# Altium footprint library Supernova DF13.PcbLib: 47 footprints (part 2 of 3)
Each footprint in its own frame and in the unit in brackets; x right, y up, seen from the top. Pads: shape width x height; smd on the part's side, far side on the other; paste and mask are expansions set on the pad; w line width, h text height; cw(c..) or ccw(c..) is an arc to the next point about the centre after c.
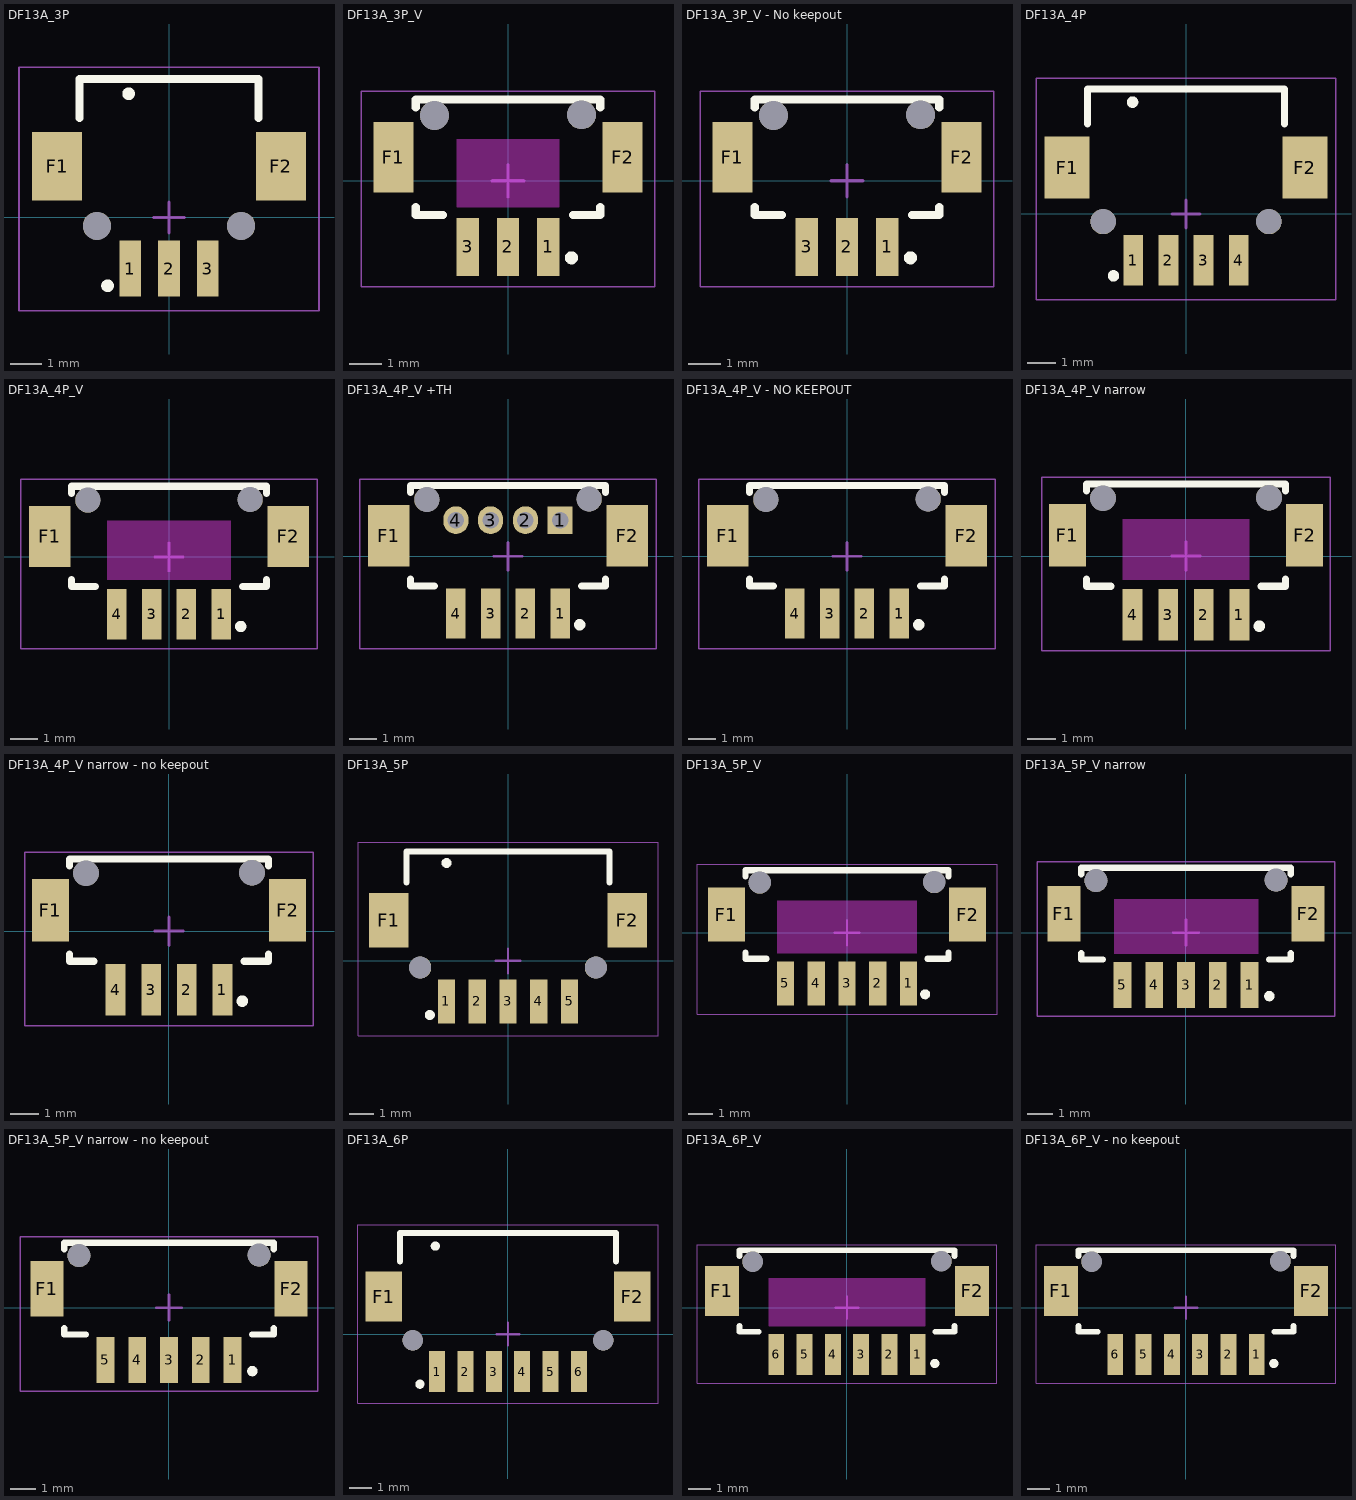
[diagram p1: the footprints below, top view; thin cyan lines are the x and y axes]

## DF13A_3P [mm]
height 4
pads (7):
  rect 0.7x1.8 smd: 1(-1.25,-1.65) 2(0,-1.65) 3(1.25,-1.65)
  rect 1.6x2.2 smd: F1(-3.6,1.65) F2(3.6,1.65)
  round 0.9 hole 0.9 unplated paste+0 mask+0: ""(-2.32,-0.27) ""(2.32,-0.27)
Top Overlay:
  circle w0.203: c-1.3,3.978 r0.102
  circle w0.203: c-1.978,-2.2 r0.102
  lines w0.254: -2.875,3.2 -2.875,4.45 2.875,4.45 2.875,3.2
Top Courtyard:
  lines w0.05: -4.826,-3 -4.826,4.826 4.826,4.826 4.826,-3 -4.826,-3
  lines w0.1: -0.5,0 0.5,0 ; 0,-0.5 0,0.5
3D body "DF13-3P-1.25H.stp": height 3.58, standoff -0.82, extent -4.2,-2.15 4.2,4.35

## DF13A_3P_V [mm]
height 4
pads (7):
  rect 0.7x1.8 smd: 1(1.25,-2.06) 2(0,-2.06) 3(-1.25,-2.06)
  rect 1.245x2.2 smd mask+0: F1(-3.575,0.74) F2(3.575,0.74)
  round 0.9 hole 0.9 unplated paste+0 mask+0: ""(-2.295,2.04) ""(2.295,2.06)
Top Layer keep-out:
  rectangle: -1.6,-0.835 1.6,1.31
Top Overlay:
  circle w0.203: c1.978,-2.4 r0.102
  lines w0.254: -2.875,-0.81 -2.875,-1.06 -2.025,-1.06 ; -2.875,2.29 -2.875,2.54 2.875,2.54 2.875,2.29 ; 2.025,-1.06 2.875,-1.06 2.875,-0.81
Top Courtyard:
  lines w0.05: -4.572,-3.302 4.572,-3.302 4.572,2.794 -4.572,2.794 -4.572,-3.302
  lines w0.1: -0.5,0 0.5,0 ; 0,-0.5 0,0.5
3D body "DF13-3P-1.25V.STEP": height 4.82, standoff -0.78, extent -4.2,-2.41 4.2,2.49

## DF13A_3P_V - No keepout [mm]
height 4
pads (7):
  rect 0.7x1.8 smd: 1(1.25,-2.06) 2(0,-2.06) 3(-1.25,-2.06)
  rect 1.245x2.2 smd mask+0: F1(-3.575,0.74) F2(3.575,0.74)
  round 0.9 hole 0.9 unplated paste+0 mask+0: ""(-2.295,2.04) ""(2.295,2.06)
Top Overlay:
  circle w0.203: c1.978,-2.4 r0.102
  lines w0.254: -2.875,-0.81 -2.875,-1.06 -2.025,-1.06 ; -2.875,2.29 -2.875,2.54 2.875,2.54 2.875,2.29 ; 2.025,-1.06 2.875,-1.06 2.875,-0.81
Top Courtyard:
  lines w0.05: -4.572,-3.302 4.572,-3.302 4.572,2.794 -4.572,2.794 -4.572,-3.302
  lines w0.1: -0.5,0 0.5,0 ; 0,-0.5 0,0.5
3D body "DF13-3P-1.25V.STEP": height 4.82, standoff -0.78, extent -4.2,-2.41 4.2,2.49

## DF13A_4P [mm]
height 4
pads (8):
  rect 0.7x1.8 smd: 1(-1.875,-1.65) 2(-0.625,-1.65) 3(0.625,-1.65) 4(1.875,-1.65)
  rect 1.6x2.2 smd: F1(-4.225,1.65) F2(4.225,1.65)
  round 0.9 hole 0.9 unplated paste+0 mask+0: ""(-2.945,-0.27) ""(2.945,-0.27)
Top Overlay:
  circle w0.203: c-2.578,-2.2 r0.102
  circle w0.203: c-1.9,3.978 r0.102
  lines w0.254: -3.5,3.2 -3.5,4.45 3.5,4.45 3.5,3.2
Top Courtyard:
  lines w0.05: -5.334,-3.048 -5.334,4.826 5.334,4.826 5.334,-3.048 -5.334,-3.048
  lines w0.1: -0.5,0 0.5,0 ; 0,-0.5 0,0.5
3D body "DF13-4P-1.25H2.stp": height 3.58, standoff -0.82, extent -4.825,-2.15 4.825,4.35

## DF13A_4P_V [mm]
height 4
pads (8):
  rect 0.7x1.8 smd: 1(1.875,-2.06) 2(0.625,-2.06) 3(-0.625,-2.06) 4(-1.875,-2.06)
  rect 1.499x2.2 smd mask+0: F1(-4.293,0.74) F2(4.293,0.74)
  round 0.9 hole 0.9 unplated paste+0 mask+0: ""(-2.92,2.04) ""(2.92,2.06)
Top Layer keep-out:
  rectangle: -2.225,-0.835 2.225,1.31
Top Overlay:
  circle w0.203: c2.578,-2.5 r0.102
  lines w0.254: -3.5,-0.81 -3.5,-1.06 -2.65,-1.06 ; -3.5,2.29 -3.5,2.54 3.5,2.54 3.5,2.29 ; 2.65,-1.06 3.5,-1.06 3.5,-0.81
Top Courtyard:
  lines w0.05: -5.334,-3.302 5.334,-3.302 5.334,2.794 -5.334,2.794 -5.334,-3.302
  lines w0.1: -0.5,0 0.5,0 ; 0,-0.5 0,0.5
3D body "DF13-4P-1.25V2.STEP": height 4.82, standoff -0.78, extent -4.825,-2.46 4.825,2.44

## DF13A_4P_V +TH [mm]
height 4
pads (12):
  rect 0.9x1 hole 0.6: 1(1.875,1.3)
  rect 0.7x1.8 smd: 1(1.875,-2.06) 2(0.625,-2.06) 3(-0.625,-2.06) 4(-1.875,-2.06)
  oval 0.9x1 hole 0.6: 2(0.625,1.3) 3(-0.625,1.3) 4(-1.875,1.3)
  rect 1.499x2.2 smd mask+0: F1(-4.293,0.74) F2(4.293,0.74)
  round 0.9 hole 0.9 unplated paste+0 mask+0: ""(-2.92,2.04) ""(2.92,2.06)
Top Overlay:
  circle w0.203: c2.578,-2.46 r0.102
  lines w0.254: -3.5,-0.81 -3.5,-1.06 -2.65,-1.06 ; -3.5,2.29 -3.5,2.54 3.5,2.54 3.5,2.29 ; 2.65,-1.06 3.5,-1.06 3.5,-0.81
Top Courtyard:
  lines w0.05: -5.334,-3.324 -5.334,2.772 5.334,2.772 5.334,-3.324 -5.334,-3.324
  lines w0.1: -0.5,0 0.5,0 ; 0,-0.5 0,0.5
3D body "DF13-4P-1.25V2.STEP": height 4.82, standoff -0.78, extent -4.825,-2.46 4.825,2.44

## DF13A_4P_V - NO KEEPOUT [mm]
height 4
pads (8):
  rect 0.7x1.8 smd: 1(1.875,-2.06) 2(0.625,-2.06) 3(-0.625,-2.06) 4(-1.875,-2.06)
  rect 1.499x2.2 smd mask+0: F1(-4.293,0.74) F2(4.293,0.74)
  round 0.9 hole 0.9 unplated paste+0 mask+0: ""(-2.92,2.04) ""(2.92,2.06)
Top Overlay:
  circle w0.203: c2.578,-2.46 r0.102
  lines w0.254: -3.5,-0.81 -3.5,-1.06 -2.65,-1.06 ; -3.5,2.29 -3.5,2.54 3.5,2.54 3.5,2.29 ; 2.65,-1.06 3.5,-1.06 3.5,-0.81
Top Courtyard:
  lines w0.05: -5.334,-3.324 -5.334,2.772 5.334,2.772 5.334,-3.324 -5.334,-3.324
  lines w0.1: -0.5,0 0.5,0 ; 0,-0.5 0,0.5
3D body "DF13-4P-1.25V2.STEP": height 4.82, standoff -0.78, extent -4.825,-2.46 4.825,2.44

## DF13A_4P_V narrow [mm]
height 4
pads (8):
  rect 0.7x1.8 smd: 1(1.875,-2.06) 2(0.625,-2.06) 3(-0.625,-2.06) 4(-1.875,-2.06)
  rect 1.3x2.2 smd mask+0: F1(-4.175,0.74) F2(4.175,0.74)
  round 0.9 hole 0.9 unplated paste+0 mask+0: ""(-2.92,2.04) ""(2.92,2.06)
Top Layer keep-out:
  rectangle: -2.225,-0.835 2.225,1.31
Top Overlay:
  circle w0.203: c2.578,-2.46 r0.102
  lines w0.254: -3.5,-0.81 -3.5,-1.06 -2.65,-1.06 ; -3.5,2.29 -3.5,2.54 3.5,2.54 3.5,2.29 ; 2.65,-1.06 3.5,-1.06 3.5,-0.81
Top Courtyard:
  lines w0.05: -5.08,-3.324 -5.08,2.772 5.08,2.772 5.08,-3.324 -5.08,-3.324
  lines w0.1: -0.5,0 0.5,0 ; 0,-0.5 0,0.5
3D body "DF13-4P-1.25V2.STEP": height 4.82, standoff -0.78, extent -4.825,-2.46 4.825,2.44

## DF13A_4P_V narrow - no keepout [mm]
height 4
pads (8):
  rect 0.7x1.8 smd: 1(1.875,-2.06) 2(0.625,-2.06) 3(-0.625,-2.06) 4(-1.875,-2.06)
  rect 1.3x2.2 smd mask+0: F1(-4.175,0.74) F2(4.175,0.74)
  round 0.9 hole 0.9 unplated paste+0 mask+0: ""(-2.92,2.04) ""(2.92,2.06)
Top Overlay:
  circle w0.203: c2.578,-2.46 r0.102
  lines w0.254: -3.5,-0.81 -3.5,-1.06 -2.65,-1.06 ; -3.5,2.29 -3.5,2.54 3.5,2.54 3.5,2.29 ; 2.65,-1.06 3.5,-1.06 3.5,-0.81
Top Courtyard:
  lines w0.05: -5.08,-3.324 5.08,-3.324 5.08,2.772 -5.08,2.772 -5.08,-3.324
  lines w0.1: -0.5,0 0.5,0 ; 0,-0.5 0,0.5
3D body "DF13-4P-1.25V2.STEP": height 4.82, standoff -0.78, extent -4.825,-2.46 4.825,2.44

## DF13A_5P [mm]
height 4
pads (9):
  rect 0.7x1.8 smd: 1(-2.5,-1.65) 2(-1.25,-1.65) 3(0,-1.65) 4(1.25,-1.65) 5(2.5,-1.65)
  rect 1.6x2.2 smd: F1(-4.85,1.65) F2(4.85,1.65)
  round 0.9 hole 0.9 unplated paste+0 mask+0: ""(-3.57,-0.27) ""(3.57,-0.27)
Top Overlay:
  circle w0.203: c-3.178,-2.2 r0.102
  circle w0.203: c-2.5,3.978 r0.102
  lines w0.254: -4.125,3.2 -4.125,4.45 4.125,4.45 4.125,3.2
Top Courtyard:
  lines w0.05: -6.096,-3.048 6.096,-3.048 6.096,4.826 -6.096,4.826 -6.096,-3.048
  lines w0.1: -0.5,0 0.5,0 ; 0,-0.5 0,0.5
3D body "DF13-5P-1.25H.stp": height 3.63, standoff -0.77, extent -5.475,-2.2 5.425,4.3

## DF13A_5P_V [mm]
height 4
pads (9):
  rect 0.7x1.8 smd: 1(2.5,-2.06) 2(1.25,-2.06) 3(0,-2.06) 4(-1.25,-2.06) 5(-2.5,-2.06)
  rect 1.5x2.2 smd mask+0: F1(-4.9,0.74) F2(4.9,0.74)
  round 0.9 hole 0.9 unplated paste+0 mask+0: ""(-3.545,2.04) ""(3.545,2.06)
Top Layer keep-out:
  rectangle: -2.835,-0.835 2.85,1.31
Top Overlay:
  circle w0.203: c3.178,-2.5 r0.102
  lines w0.254: -4.125,-0.81 -4.125,-1.06 -3.275,-1.06 ; -4.125,2.29 -4.125,2.54 4.125,2.54 4.125,2.29 ; 3.275,-1.06 4.125,-1.06 4.125,-0.81
Top Courtyard:
  lines w0.05: -6.096,-3.302 -6.096,2.794 6.096,2.794 6.096,-3.302 -6.096,-3.302
  lines w0.1: -0.5,0 0.5,0 ; 0,-0.5 0,0.5
3D body "DF13-5P-1.25V.stp": height 4.79, standoff -0.81, extent -5.465,-2.46 5.435,2.44

## DF13A_5P_V narrow [mm]
height 4
pads (9):
  rect 0.7x1.8 smd: 1(2.5,-2.06) 2(1.25,-2.06) 3(0,-2.06) 4(-1.25,-2.06) 5(-2.5,-2.06)
  rect 1.3x2.2 smd mask+0: F1(-4.8,0.74) F2(4.8,0.74)
  round 0.9 hole 0.9 unplated paste+0 mask+0: ""(-3.545,2.04) ""(3.545,2.06)
Top Layer keep-out:
  rectangle: -2.835,-0.835 2.85,1.31
Top Overlay:
  circle w0.203: c3.278,-2.5 r0.102
  lines w0.254: -4.125,-0.81 -4.125,-1.06 -3.275,-1.06 ; -4.125,2.29 -4.125,2.54 4.125,2.54 4.125,2.29 ; 3.275,-1.06 4.125,-1.06 4.125,-0.81
Top Courtyard:
  lines w0.05: -5.842,-3.302 -5.842,2.794 5.842,2.794 5.842,-3.302 -5.842,-3.302
  lines w0.1: -0.5,0 0.5,0 ; 0,-0.5 0,0.5
3D body "DF13-5P-1.25V.stp": height 4.79, standoff -0.81, extent -5.465,-2.46 5.435,2.44

## DF13A_5P_V narrow - no keepout [mm]
height 4
pads (9):
  rect 0.7x1.8 smd: 1(2.5,-2.06) 2(1.25,-2.06) 3(0,-2.06) 4(-1.25,-2.06) 5(-2.5,-2.06)
  rect 1.3x2.2 smd mask+0: F1(-4.8,0.74) F2(4.8,0.74)
  round 0.9 hole 0.9 unplated paste+0 mask+0: ""(-3.545,2.04) ""(3.545,2.06)
Top Overlay:
  circle w0.203: c3.278,-2.5 r0.102
  lines w0.254: -4.125,-0.81 -4.125,-1.06 -3.275,-1.06 ; -4.125,2.29 -4.125,2.54 4.125,2.54 4.125,2.29 ; 3.275,-1.06 4.125,-1.06 4.125,-0.81
Top Courtyard:
  lines w0.05: -5.842,-3.302 -5.842,2.794 5.842,2.794 5.842,-3.302 -5.842,-3.302
  lines w0.1: -0.5,0 0.5,0 ; 0,-0.5 0,0.5
3D body "DF13-5P-1.25V.stp": height 4.79, standoff -0.81, extent -5.465,-2.46 5.435,2.44

## DF13A_6P [mm]
height 4
pads (10):
  rect 0.7x1.8 smd: 1(-3.125,-1.65) 2(-1.875,-1.65) 3(-0.625,-1.65) 4(0.625,-1.65) 5(1.875,-1.65) 6(3.125,-1.65)
  rect 1.6x2.2 smd: F1(-5.475,1.65) F2(5.475,1.65)
  round 0.9 hole 0.9 unplated paste+0 mask+0: ""(-4.195,-0.27) ""(4.195,-0.27)
Top Overlay:
  circle w0.203: c-3.878,-2.2 r0.102
  circle w0.203: c-3.2,3.878 r0.102
  lines w0.254: -4.75,3.2 -4.75,4.45 4.75,4.45 4.75,3.2
Top Courtyard:
  lines w0.05: -6.604,-3.048 6.604,-3.048 6.604,4.826 -6.604,4.826 -6.604,-3.048
  lines w0.1: -0.5,0 0.5,0 ; 0,-0.5 0,0.5
3D body "DF13-6P-1.25H.stp": height 3.63, standoff -0.77, extent -6.1,-2.175 6.05,4.325

## DF13A_6P_V [mm]
height 4
pads (10):
  rect 0.7x1.8 smd: 1(3.125,-2.06) 2(1.875,-2.06) 3(0.625,-2.06) 4(-0.625,-2.06) 5(-1.875,-2.06) 6(-3.125,-2.06)
  rect 1.5x2.2 smd mask+0: F1(-5.525,0.74) F2(5.525,0.74)
  round 0.9 hole 0.9 unplated paste+0 mask+0: ""(-4.17,2.04) ""(4.17,2.06)
Top Layer keep-out:
  rectangle: -3.475,-0.835 3.475,1.31
Top Overlay:
  circle w0.203: c3.878,-2.46 r0.102
  lines w0.254: -4.75,-0.81 -4.75,-1.06 -3.9,-1.06 ; -4.75,2.29 -4.75,2.54 4.75,2.54 4.75,2.29 ; 3.9,-1.06 4.75,-1.06 4.75,-0.81
Top Courtyard:
  lines w0.05: -6.604,-3.324 -6.604,2.772 6.604,2.772 6.604,-3.324 -6.604,-3.324
  lines w0.1: -0.5,0 0.5,0 ; 0,-0.5 0,0.5
3D body "DF13-6P-1.25V2.STEP": height 4.82, standoff -0.78, extent -6.075,-2.46 6.075,2.44

## DF13A_6P_V - no keepout [mm]
height 4
pads (10):
  rect 0.7x1.8 smd: 1(3.125,-2.06) 2(1.875,-2.06) 3(0.625,-2.06) 4(-0.625,-2.06) 5(-1.875,-2.06) 6(-3.125,-2.06)
  rect 1.5x2.2 smd mask+0: F1(-5.525,0.74) F2(5.525,0.74)
  round 0.9 hole 0.9 unplated paste+0 mask+0: ""(-4.17,2.04) ""(4.17,2.06)
Top Overlay:
  circle w0.203: c3.878,-2.46 r0.102
  lines w0.254: -4.75,-0.81 -4.75,-1.06 -3.9,-1.06 ; -4.75,2.29 -4.75,2.54 4.75,2.54 4.75,2.29 ; 3.9,-1.06 4.75,-1.06 4.75,-0.81
Top Courtyard:
  lines w0.05: -6.604,-3.324 -6.604,2.772 6.604,2.772 6.604,-3.324 -6.604,-3.324
  lines w0.1: -0.5,0 0.5,0 ; 0,-0.5 0,0.5
3D body "DF13-6P-1.25V2.STEP": height 4.82, standoff -0.78, extent -6.075,-2.46 6.075,2.44